# EAGLE library part MTA16-156 (library con-amp1)
AMP connector
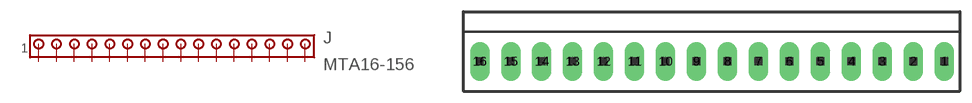
[diagram p121: symbol with the pads of 1X16MTA; footprint 1X16MTA]

Designator prefix J

## MTA16-156  [1X16MTA]
1  1  pas
2  2  pas
3  3  pas
4  4  pas
5  5  pas
6  6  pas
7  7  pas
8  8  pas
9  9  pas
10  10  pas
11  11  pas
12  12  pas
13  13  pas
14  14  pas
15  15  pas
16  16  pas

## Footprint 1X16MTA (pad centres in mm)
AMP MTA connector
drill 1.676 long: 1 29.718,0; 2 25.756,0; 3 21.793,0; 4 17.831,0; 5 13.868,0; 6 9.906,0; 7 5.944,0; 8 1.981,0; 9 -1.981,0; 10 -5.944,0; 11 -9.906,0; 12 -13.868,0; 13 -17.831,0; 14 -21.793,0; 15 -25.756,0; 16 -29.718,0